# Altium footprint library PCB - SPECIALISEDSENSOR - TALEMA AC1010.PCBLIB: 1 footprints
Each footprint in its own frame and in the unit in brackets; x right, y up, seen from the top. Pads: shape width x height; smd on the part's side, far side on the other; paste and mask are expansions set on the pad; w line width, h text height; cw(c..) or ccw(c..) is an arc to the next point about the centre after c.
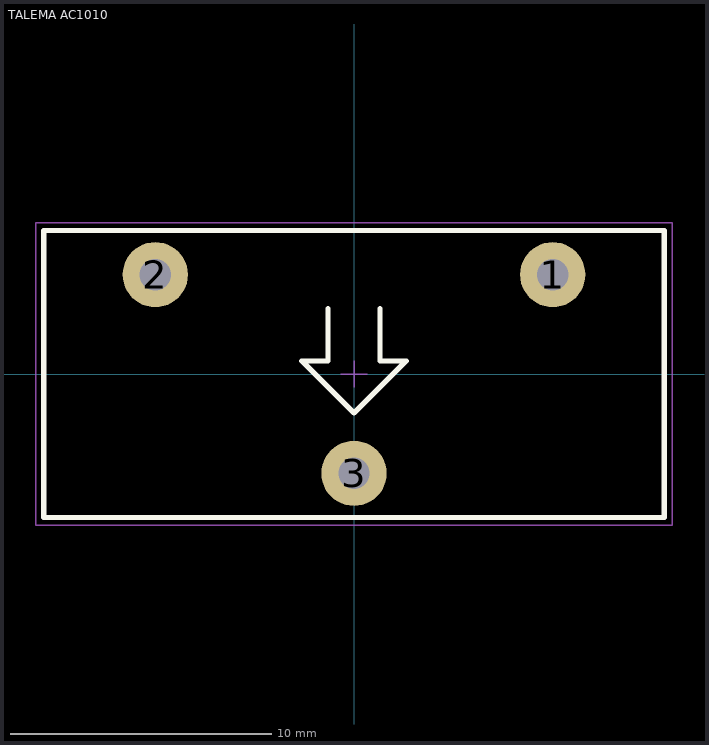
[diagram p0: the footprint, top view; thin cyan lines are the x and y axes]

## TALEMA AC1010 [mm] "CURRENT TRANSFORMER 23.8x23.8x11.12mm"
height 23.8
pads (3):
  round 2.5 hole 1.2: 1(7.62,3.81) 2(-7.62,3.81) 3(0,-3.81)
Top Overlay:
  lines w0.2: -1,2.5 -1,0.5 -2,0.5 0,-1.5 2,0.5 1,0.5 1,2.5 ; -11.9,-5.5 -11.9,5.5 11.9,5.5 11.9,-5.5 -11.9,-5.5
Mechanical 13:
  lines w0.1: -11.9,-5.5 -11.9,5.5 11.9,5.5 11.9,-5.5 -11.9,-5.5
Mechanical 15:
  lines w0.05: -0.5,0 0.5,0 ; 0,-0.5 0,0.5 ; -12.2,-5.8 -12.2,5.8 12.2,5.8 12.2,-5.8 -12.2,-5.8
3D body "TALEMA - AC1010.step": height 24.3, standoff -5, extent -11.9,-5.56 11.9,5.56